# EAGLE library part LM2576SX-5.0/NOPB (library Stepper Synth 2.4)
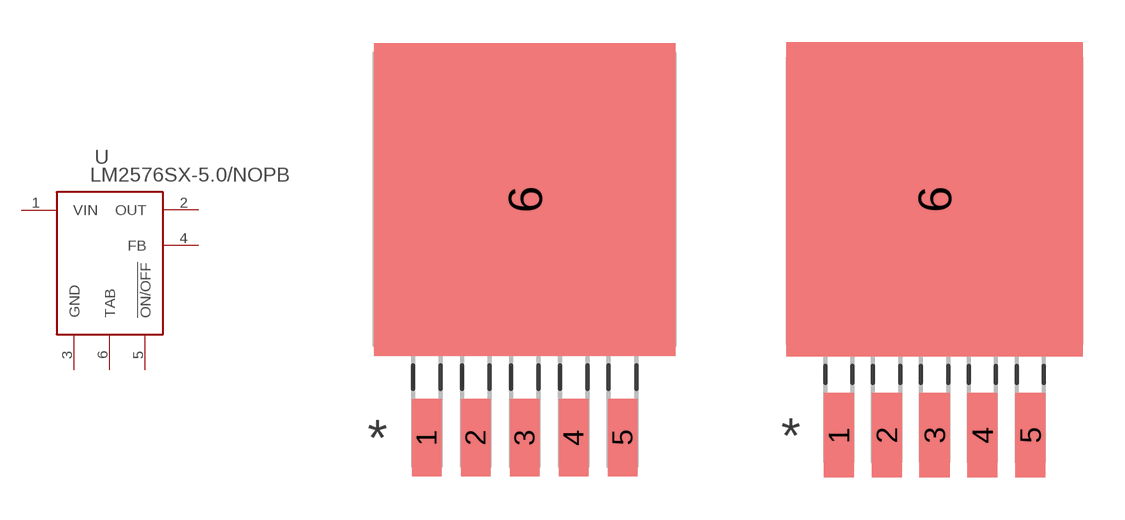
[diagram p0: symbol with the pads of TS5B; footprints TS5B, TS5B-M]

Designator prefix U

## LM2576SX-5.0/NOPB (MANUFACTURER_PART_NUMBER: LM2576SX5.0NOPB; VENDOR: Texas Instruments)  [TS5B]
1  VIN  pwr
2  OUT  pwr
3  GND  pwr
4  FB  in
5  !ON/OFF  in
6  TAB  pwr

## LM2576SX-5.0/NOPBTS5B-M (MANUFACTURER_PART_NUMBER: LM2576SX5.0NOPB; VENDOR: Texas Instruments)  [TS5B-M]
Pads as for TS5B

## LM2576SX-5.0/NOPBTS5B-L (MANUFACTURER_PART_NUMBER: LM2576SX5.0NOPB; VENDOR: Texas Instruments)  [TS5B-L]
Pads as for TS5B

## Footprint TS5B (pad centres in mm)
smd 1.016 x 2.692: 1 -3.404,-8.28; 2 -1.702,-8.28; 3 0,-8.28; 4 1.702,-8.28; 5 3.404,-8.28
smd 10.465 x 10.871: 6 0,0

## Footprint TS5B-M (pad centres in mm)
smd 1.067 x 2.997: 1 -3.404,-8.331; 2 -1.702,-8.331; 3 0,-8.331; 4 1.702,-8.331; 5 3.404,-8.331
smd 10.516 x 11.176: 6 0,0.051

## Footprint TS5B-L (pad centres in mm)
smd 0.965 x 2.388: 1 -3.404,-8.23; 2 -1.702,-8.23; 3 0,-8.23; 4 1.702,-8.23; 5 3.404,-8.23
smd 10.414 x 10.566: 6 0,-0.051
drill 0.61 pad 1.27 square: P$1 -4.445,4.318; P$2 -3.175,4.318; P$3 -1.905,4.318; P$4 -0.635,4.318; P$5 0.635,4.318; P$6 1.905,4.318; P$7 3.175,4.318; P$8 4.445,4.318; P$9 -4.445,3.048; P$10 -3.175,3.048; P$11 -1.905,3.048; P$12 -0.635,3.048; P$13 0.635,3.048; P$14 1.905,3.048; P$15 3.175,3.048; P$16 4.445,3.048; P$17 -4.445,1.778; P$18 -3.175,1.778; P$19 -1.905,1.778; P$20 -0.635,1.778; P$21 0.635,1.778; P$22 1.905,1.778; P$23 3.175,1.778; P$24 4.445,1.778; P$25 -4.445,0.508; P$26 -3.175,0.508; P$27 -1.905,0.508; P$28 -0.635,0.508; P$29 0.635,0.508; P$30 1.905,0.508; P$31 3.175,0.508; P$32 4.445,0.508; P$33 -4.445,-0.762; P$34 -3.175,-0.762; P$35 -1.905,-0.762; P$36 -0.635,-0.762; P$37 0.635,-0.762; P$38 1.905,-0.762; P$39 3.175,-0.762; P$40 4.445,-0.762; P$41 -4.445,-2.032; P$42 -3.175,-2.032; P$43 -1.905,-2.032; P$44 -0.635,-2.032; P$45 0.635,-2.032; P$46 1.905,-2.032; P$47 3.175,-2.032; P$48 4.445,-2.032; P$49 -4.445,-3.302; P$50 -3.175,-3.302; P$51 -1.905,-3.302; P$52 -0.635,-3.302; P$53 0.635,-3.302; P$54 1.905,-3.302; P$55 3.175,-3.302; P$56 4.445,-3.302; P$57 -4.445,-4.572; P$58 -3.175,-4.572; P$59 -1.905,-4.572; P$60 -0.635,-4.572; P$61 0.635,-4.572; P$62 1.905,-4.572; P$63 3.175,-4.572; P$64 4.445,-4.572